# EAGLE library part STM32H755ZI (library stm32_lqfp144)
36 MHz, 32KB RAM, 256 KB Flash
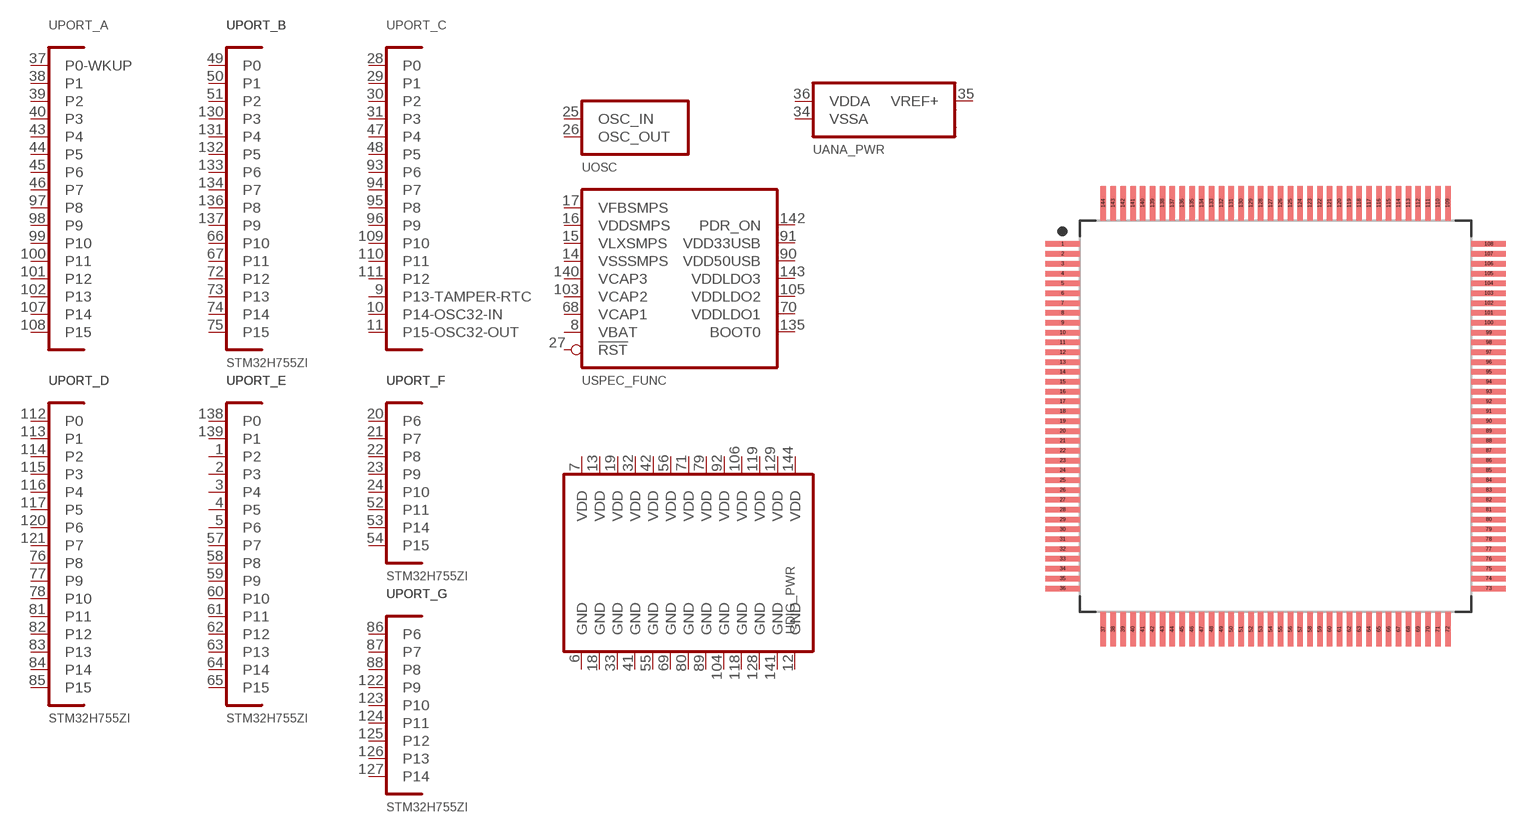
[diagram p0: symbol with the pads of LQFP144; footprint LQFP144]

Designator prefix -; gates PORT_A=IO_PORT_A PORT_C=IO_PORT_C OSC=OSC SPEC_FUNC=SPECIAL_FUNC DIG_PWR=DIG_PWR ANA_PWR=ANA_PWR PORT_B=IO_PORT_B PORT_D=IO_PORT_D PORT_E=IO_PORT_E PORT_F=IO_PORT_F PORT_G=IO_PORT_G

## STM32H755ZILQFP144  [LQFP144]
1  PORT_E:P2
2  PORT_E:P3
3  PORT_E:P4
4  PORT_E:P5
5  PORT_E:P6
6  DIG_PWR:GND  pwr
7  DIG_PWR:VDD  pwr
8  SPEC_FUNC:VBAT  pas
9  PORT_C:P13-TAMPER-RTC
10  PORT_C:P14-OSC32-IN
11  PORT_C:P15-OSC32-OUT
12  DIG_PWR:GND  pwr
13  DIG_PWR:VDD  pwr
14  SPEC_FUNC:VSSSMPS  pas
15  SPEC_FUNC:VLXSMPS  pas
16  SPEC_FUNC:VDDSMPS  pas
17  SPEC_FUNC:VFBSMPS  pas
18  DIG_PWR:GND  pwr
19  DIG_PWR:VDD  pwr
20  PORT_F:P6
21  PORT_F:P7
22  PORT_F:P8
23  PORT_F:P9
24  PORT_F:P10
25  OSC:OSC_IN  pas
26  OSC:OSC_OUT  pas
27  SPEC_FUNC:!RST  in
28  PORT_C:P0
29  PORT_C:P1
30  PORT_C:P2
31  PORT_C:P3
32  DIG_PWR:VDD  pwr
33  DIG_PWR:GND  pwr
34  ANA_PWR:VSSA  pwr
35  ANA_PWR:VREF+  pas
36  ANA_PWR:VDDA  pwr
37  PORT_A:P0-WKUP
38  PORT_A:P1
39  PORT_A:P2
40  PORT_A:P3
41  DIG_PWR:GND  pwr
42  DIG_PWR:VDD  pwr
43  PORT_A:P4
44  PORT_A:P5
45  PORT_A:P6
46  PORT_A:P7
47  PORT_C:P4
48  PORT_C:P5
49  PORT_B:P0
50  PORT_B:P1
51  PORT_B:P2
52  PORT_F:P11
53  PORT_F:P14
54  PORT_F:P15
55  DIG_PWR:GND  pwr
56  DIG_PWR:VDD  pwr
57  PORT_E:P7
58  PORT_E:P8
59  PORT_E:P9
60  PORT_E:P10
61  PORT_E:P11
62  PORT_E:P12
63  PORT_E:P13
64  PORT_E:P14
65  PORT_E:P15
66  PORT_B:P10
67  PORT_B:P11
68  SPEC_FUNC:VCAP1  pas
69  DIG_PWR:GND  pwr
70  SPEC_FUNC:VDDLDO1  pas
71  DIG_PWR:VDD  pwr
72  PORT_B:P12
73  PORT_B:P13
74  PORT_B:P14
75  PORT_B:P15
76  PORT_D:P8
77  PORT_D:P9
78  PORT_D:P10
79  DIG_PWR:VDD  pwr
80  DIG_PWR:GND  pwr
81  PORT_D:P11
82  PORT_D:P12
83  PORT_D:P13
84  PORT_D:P14
85  PORT_D:P15
86  PORT_G:P6
87  PORT_G:P7
88  PORT_G:P8
89  DIG_PWR:GND  pwr
90  SPEC_FUNC:VDD50USB  pas
91  SPEC_FUNC:VDD33USB  pas
92  DIG_PWR:VDD  pwr
93  PORT_C:P6
94  PORT_C:P7
95  PORT_C:P8
96  PORT_C:P9
97  PORT_A:P8
98  PORT_A:P9
99  PORT_A:P10
100  PORT_A:P11
101  PORT_A:P12
102  PORT_A:P13
103  SPEC_FUNC:VCAP2  pas
104  DIG_PWR:GND  pwr
105  SPEC_FUNC:VDDLDO2  pas
106  DIG_PWR:VDD  pwr
107  PORT_A:P14
108  PORT_A:P15
109  PORT_C:P10
110  PORT_C:P11
111  PORT_C:P12
112  PORT_D:P0
113  PORT_D:P1
114  PORT_D:P2
115  PORT_D:P3
116  PORT_D:P4
117  PORT_D:P5
118  DIG_PWR:GND  pwr
119  DIG_PWR:VDD  pwr
120  PORT_D:P6
121  PORT_D:P7
122  PORT_G:P9
123  PORT_G:P10
124  PORT_G:P11
125  PORT_G:P12
126  PORT_G:P13
127  PORT_G:P14
128  DIG_PWR:GND  pwr
129  DIG_PWR:VDD  pwr
130  PORT_B:P3
131  PORT_B:P4
132  PORT_B:P5
133  PORT_B:P6
134  PORT_B:P7
135  SPEC_FUNC:BOOT0  in
136  PORT_B:P8
137  PORT_B:P9
138  PORT_E:P0
139  PORT_E:P1
140  SPEC_FUNC:VCAP3  pas
141  DIG_PWR:GND  pwr
142  SPEC_FUNC:PDR_ON  pas
143  SPEC_FUNC:VDDLDO3  pas
144  DIG_PWR:VDD  pwr

## Footprint LQFP144 (pad centres in mm)
144-QFP, 0.50 mm pitch, 22.60 mm span, 19.90 X 19.90 X 1.00 mm body 144-pin QFP package with 0.50 mm pitch, 22.60 mm lead span1 X 22.60 mm lead span2 with body size 19.90 X 19.90 X 1.00 mm
smd 1.758 x 0.28: 1 -10.827,8.75; 2 -10.827,8.25; 3 -10.827,7.75; 4 -10.827,7.25; 5 -10.827,6.75; 6 -10.827,6.25; 7 -10.827,5.75; 8 -10.827,5.25; 9 -10.827,4.75; 10 -10.827,4.25; 11 -10.827,3.75; 12 -10.827,3.25; 13 -10.827,2.75; 14 -10.827,2.25; 15 -10.827,1.75; 16 -10.827,1.25; 17 -10.827,0.75; 18 -10.827,0.25; 19 -10.827,-0.25; 20 -10.827,-0.75; 21 -10.827,-1.25; 22 -10.827,-1.75; 23 -10.827,-2.25; 24 -10.827,-2.75; 25 -10.827,-3.25; 26 -10.827,-3.75; 27 -10.827,-4.25; 28 -10.827,-4.75; 29 -10.827,-5.25; 30 -10.827,-5.75; 31 -10.827,-6.25; 32 -10.827,-6.75; 33 -10.827,-7.25; 34 -10.827,-7.75; 35 -10.827,-8.25; 36 -10.827,-8.75; 73 10.827,-8.75; 74 10.827,-8.25; 75 10.827,-7.75; 76 10.827,-7.25; 77 10.827,-6.75; 78 10.827,-6.25; 79 10.827,-5.75; 80 10.827,-5.25; 81 10.827,-4.75; 82 10.827,-4.25; 83 10.827,-3.75; 84 10.827,-3.25; 85 10.827,-2.75; 86 10.827,-2.25; 87 10.827,-1.75; 88 10.827,-1.25; 89 10.827,-0.75; 90 10.827,-0.25; 91 10.827,0.25; 92 10.827,0.75; 93 10.827,1.25; 94 10.827,1.75; 95 10.827,2.25; 96 10.827,2.75; 97 10.827,3.25; 98 10.827,3.75; 99 10.827,4.25; 100 10.827,4.75; 101 10.827,5.25; 102 10.827,5.75; 103 10.827,6.25; 104 10.827,6.75; 105 10.827,7.25; 106 10.827,7.75; 107 10.827,8.25; 108 10.827,8.75
smd 0.28 x 1.758: 37 -8.75,-10.827; 38 -8.25,-10.827; 39 -7.75,-10.827; 40 -7.25,-10.827; 41 -6.75,-10.827; 42 -6.25,-10.827; 43 -5.75,-10.827; 44 -5.25,-10.827; 45 -4.75,-10.827; 46 -4.25,-10.827; 47 -3.75,-10.827; 48 -3.25,-10.827; 49 -2.75,-10.827; 50 -2.25,-10.827; 51 -1.75,-10.827; 52 -1.25,-10.827; 53 -0.75,-10.827; 54 -0.25,-10.827; 55 0.25,-10.827; 56 0.75,-10.827; 57 1.25,-10.827; 58 1.75,-10.827; 59 2.25,-10.827; 60 2.75,-10.827; 61 3.25,-10.827; 62 3.75,-10.827; 63 4.25,-10.827; 64 4.75,-10.827; 65 5.25,-10.827; 66 5.75,-10.827; 67 6.25,-10.827; 68 6.75,-10.827; 69 7.25,-10.827; 70 7.75,-10.827; 71 8.25,-10.827; 72 8.75,-10.827; 109 8.75,10.827; 110 8.25,10.827; 111 7.75,10.827; 112 7.25,10.827; 113 6.75,10.827; 114 6.25,10.827; 115 5.75,10.827; 116 5.25,10.827; 117 4.75,10.827; 118 4.25,10.827; 119 3.75,10.827; 120 3.25,10.827; 121 2.75,10.827; 122 2.25,10.827; 123 1.75,10.827; 124 1.25,10.827; 125 0.75,10.827; 126 0.25,10.827; 127 -0.25,10.827; 128 -0.75,10.827; 129 -1.25,10.827; 130 -1.75,10.827; 131 -2.25,10.827; 132 -2.75,10.827; 133 -3.25,10.827; 134 -3.75,10.827; 135 -4.25,10.827; 136 -4.75,10.827; 137 -5.25,10.827; 138 -5.75,10.827; 139 -6.25,10.827; 140 -6.75,10.827; 141 -7.25,10.827; 142 -7.75,10.827; 143 -8.25,10.827; 144 -8.75,10.827